# EAGLE library part 14PIN-SMD-2.54MM (library CYCFI_Con)
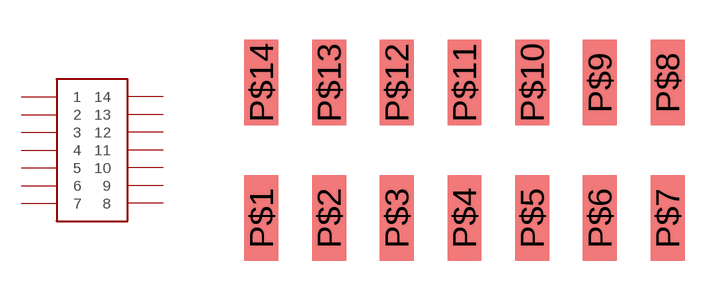
[diagram p1: symbol with the pads of 14P-SMD-2.54; footprint 14P-SMD-2.54]

Designator prefix -

## 14PIN-SMD-2.54MM  [14P-SMD-2.54]
P$1  1
P$2  2
P$3  3
P$4  4
P$5  5
P$6  6
P$7  7
P$8  8
P$9  9
P$10  10
P$11  11
P$12  12
P$13  13
P$14  14

## Footprint 14P-SMD-2.54 (pad centres in mm)
smd 1.27 x 3.2: P$1 -7.62,-2.54; P$2 -5.08,-2.54; P$3 -2.54,-2.54; P$4 0,-2.54; P$5 2.54,-2.54; P$6 5.08,-2.54; P$7 7.62,-2.54; P$8 7.62,2.54; P$9 5.08,2.54; P$10 2.54,2.54; P$11 0,2.54; P$12 -2.54,2.54; P$13 -5.08,2.54; P$14 -7.62,2.54